# EAGLE library part LE866 (library (custom)-new-components)
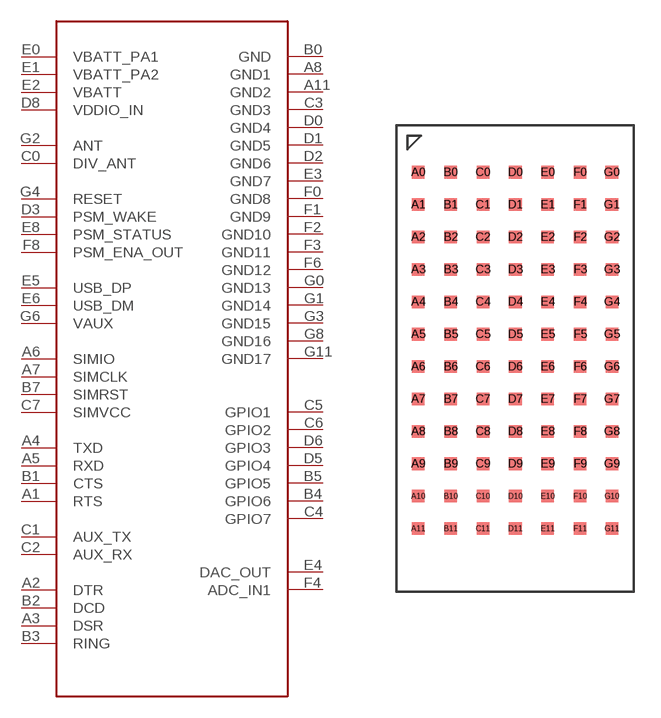
[diagram p17: symbol with the pads of LE866; footprint LE866]

Designator prefix -

## LE866  [LE866]
A1  RTS
A2  DTR
A3  DSR
A4  TXD
A5  RXD
A6  SIMIO
A7  SIMCLK
A8  GND1
A11  GND2
B0  GND
B1  CTS
B2  DCD
B3  RING
B4  GPIO6
B5  GPIO5
B7  SIMRST
C0  DIV_ANT
C1  AUX_TX
C2  AUX_RX
C3  GND3
C4  GPIO7
C5  GPIO1
C6  GPIO2
C7  SIMVCC
D0  GND4
D1  GND5
D2  GND6
D3  PSM_WAKE
D5  GPIO4
D6  GPIO3
D8  VDDIO_IN
E0  VBATT_PA1
E1  VBATT_PA2
E2  VBATT
E3  GND7
E4  DAC_OUT
E5  USB_DP
E6  USB_DM
E8  PSM_STATUS
F0  GND8
F1  GND9
F2  GND10
F3  GND11
F4  ADC_IN1
F6  GND12
F8  PSM_ENA_OUT
G0  GND13
G1  GND14
G2  ANT
G3  GND15
G4  RESET
G6  VAUX
G8  GND16
G11  GND17

## Footprint LE866 (pad centres in mm)
smd 0.7 x 0.7: A0 -5.4,7.2; A1 -5.4,5.4; A2 -5.4,3.6; A3 -5.4,1.8; A4 -5.4,0; A5 -5.4,-1.8; A6 -5.4,-3.6; A7 -5.4,-5.4; A8 -5.4,-7.2; A9 -5.4,-9; A10 -5.4,-10.8; A11 -5.4,-12.6; B0 -3.6,7.2; B1 -3.6,5.4; B2 -3.59,3.6; B3 -3.59,1.8; B4 -3.59,0; B5 -3.59,-1.8; B6 -3.59,-3.6; B7 -3.59,-5.4; B8 -3.59,-7.2; B9 -3.59,-9; B10 -3.59,-10.8; B11 -3.59,-12.6; C0 -1.8,7.2; C1 -1.8,5.4; C2 -1.8,3.6; C3 -1.8,1.8; C4 -1.8,0; C5 -1.8,-1.8; C6 -1.8,-3.6; C7 -1.8,-5.4; C8 -1.8,-7.2; C9 -1.8,-9; C10 -1.8,-10.8; C11 -1.8,-12.6; D0 0,7.2; D1 0,5.4; D2 0,3.6; D3 0,1.8; D4 0,0; D5 0,-1.8; D6 0,-3.6; D7 0,-5.4; D8 0,-7.2; D9 0,-9; D10 0,-10.8; D11 0,-12.6; E0 1.8,7.2; E1 1.8,5.4; E2 1.8,3.6; E3 1.8,1.8; E4 1.8,0; E5 1.8,-1.8; E6 1.8,-3.6; E7 1.8,-5.4; E8 1.8,-7.2; E9 1.8,-9; E10 1.8,-10.8; E11 1.8,-12.6; F0 3.6,7.2; F1 3.6,5.4; F2 3.61,3.6; F3 3.61,1.8; F4 3.61,0; F5 3.61,-1.8; F6 3.61,-3.6; F7 3.61,-5.4; F8 3.61,-7.2; F9 3.61,-9; F10 3.61,-10.8; F11 3.61,-12.6; G0 5.365,7.2; G1 5.365,5.4; G2 5.375,3.6; G3 5.375,1.8; G4 5.375,0; G5 5.375,-1.8; G6 5.375,-3.6; G7 5.375,-5.4; G8 5.375,-7.2; G9 5.375,-9; G10 5.375,-10.8; G11 5.375,-12.6